# EAGLE library part AKL18X-08 (library con-riacon)
Riacon AKL18X Steckverbinder 8-Pol Grid = 3,5mm
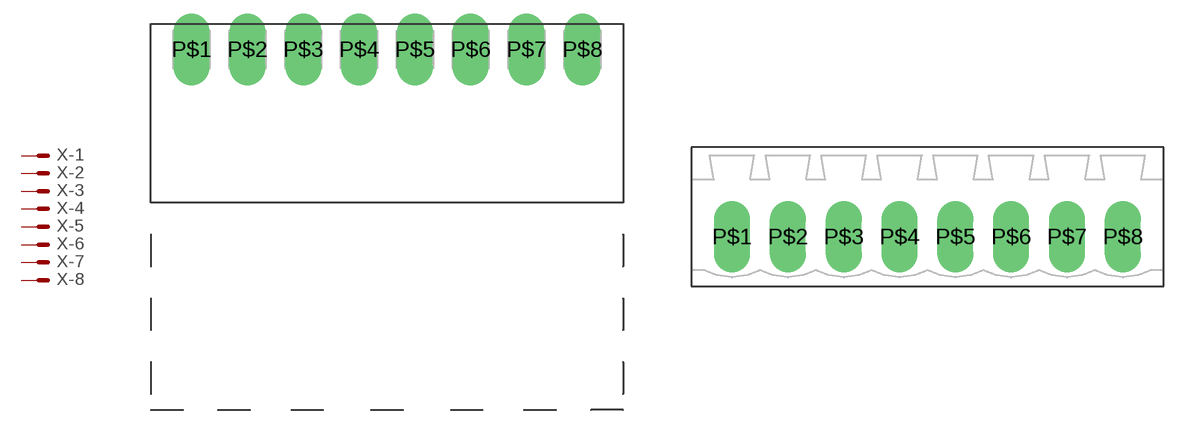
[diagram p1: symbol with the pads of AKL182-08; footprints AKL182-08, AKL183-08]

Designator prefix X; gates -1=M -2=M -3=M -4=M -5=M -6=M -7=M -8=M

## AKL18X-08W  [AKL182-08]
P$1  -1:S  pas
P$2  -2:S  pas
P$3  -3:S  pas
P$4  -4:S  pas
P$5  -5:S  pas
P$6  -6:S  pas
P$7  -7:S  pas
P$8  -8:S  pas

## AKL18X-08G  [AKL183-08]
Pads as for AKL182-08

## Footprint AKL182-08 (pad centres in mm)
drill 1.5 pad 2.184 long: P$1 -12.25,0; P$2 -8.75,0; P$3 -5.25,0; P$4 -1.75,0; P$5 1.75,0; P$6 5.25,0; P$7 8.75,0; P$8 12.25,0

## Footprint AKL183-08 (pad centres in mm)
drill 1.5 pad 2.184 long: P$1 -12.25,0; P$2 -8.75,0; P$3 -5.25,0; P$4 -1.75,0; P$5 1.75,0; P$6 5.25,0; P$7 8.75,0; P$8 12.25,0